# EAGLE library part SN74AHC125PWR (library SN74AHC125PWR)
Buy Part <https://snapeda.com/parts/SN74AHC125PWR/Texas%20Instruments/view-part/?ref=eda>
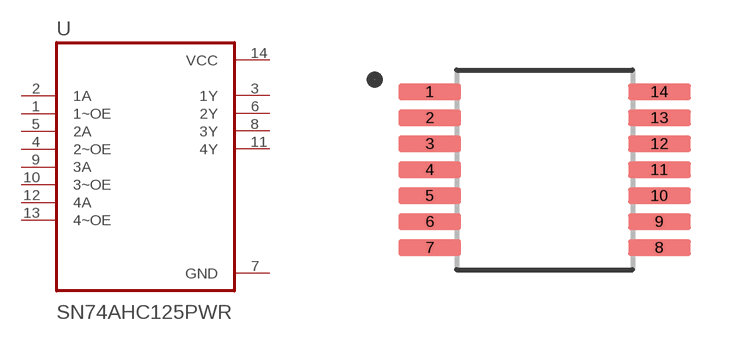
[diagram p0: symbol with the pads of SOP65P640X120-14N; footprint SOP65P640X120-14N]

Designator prefix U

## SN74AHC125PWR (Availability: Good; Description: Quadruple Bus Buffer Gates With 3-State Outputs 14-TSSOP -40 to 125; DigiKey-Purchase-URL: https://snapeda.com/shop?store=DigiKey&id=290725; MF: Texas Instruments; MP: SN74AHC125PWR; Mouser-Purchase-URL: https://snapeda.com/shop?store=Mouser&id=290725; Package: TSSOP-14 Texas Instruments; Price: None; Texas_Instruments-Purchase-URL: https://snapeda.com/shop?store=Texas+Instruments&id=290725)  [SOP65P640X120-14N]
1  1~OE  in
2  1A  in
3  1Y  out
4  2~OE  in
5  2A  in
6  2Y  out
7  GND  pwr
8  3Y  out
9  3A  in
10  3~OE  in
11  4Y  out
12  4A  in
13  4~OE  in
14  VCC  pwr

## Footprint SOP65P640X120-14N (pad centres in mm)
smd 1.57 x 0.41: 1 -2.87,1.95; 2 -2.87,1.3; 3 -2.87,0.65; 4 -2.87,0; 5 -2.87,-0.65; 6 -2.87,-1.3; 7 -2.87,-1.95; 8 2.87,-1.95; 9 2.87,-1.3; 10 2.87,-0.65; 11 2.87,0; 12 2.87,0.65; 13 2.87,1.3; 14 2.87,1.95